# Altium footprint library Capacitor - Electrolytic.PcbLib: 177 footprints (part 1 of 12)
Each footprint in its own frame and in the unit in brackets; x right, y up, seen from the top. Pads: shape width x height; smd on the part's side, far side on the other; paste and mask are expansions set on the pad; w line width, h text height; cw(c..) or ccw(c..) is an arc to the next point about the centre after c.
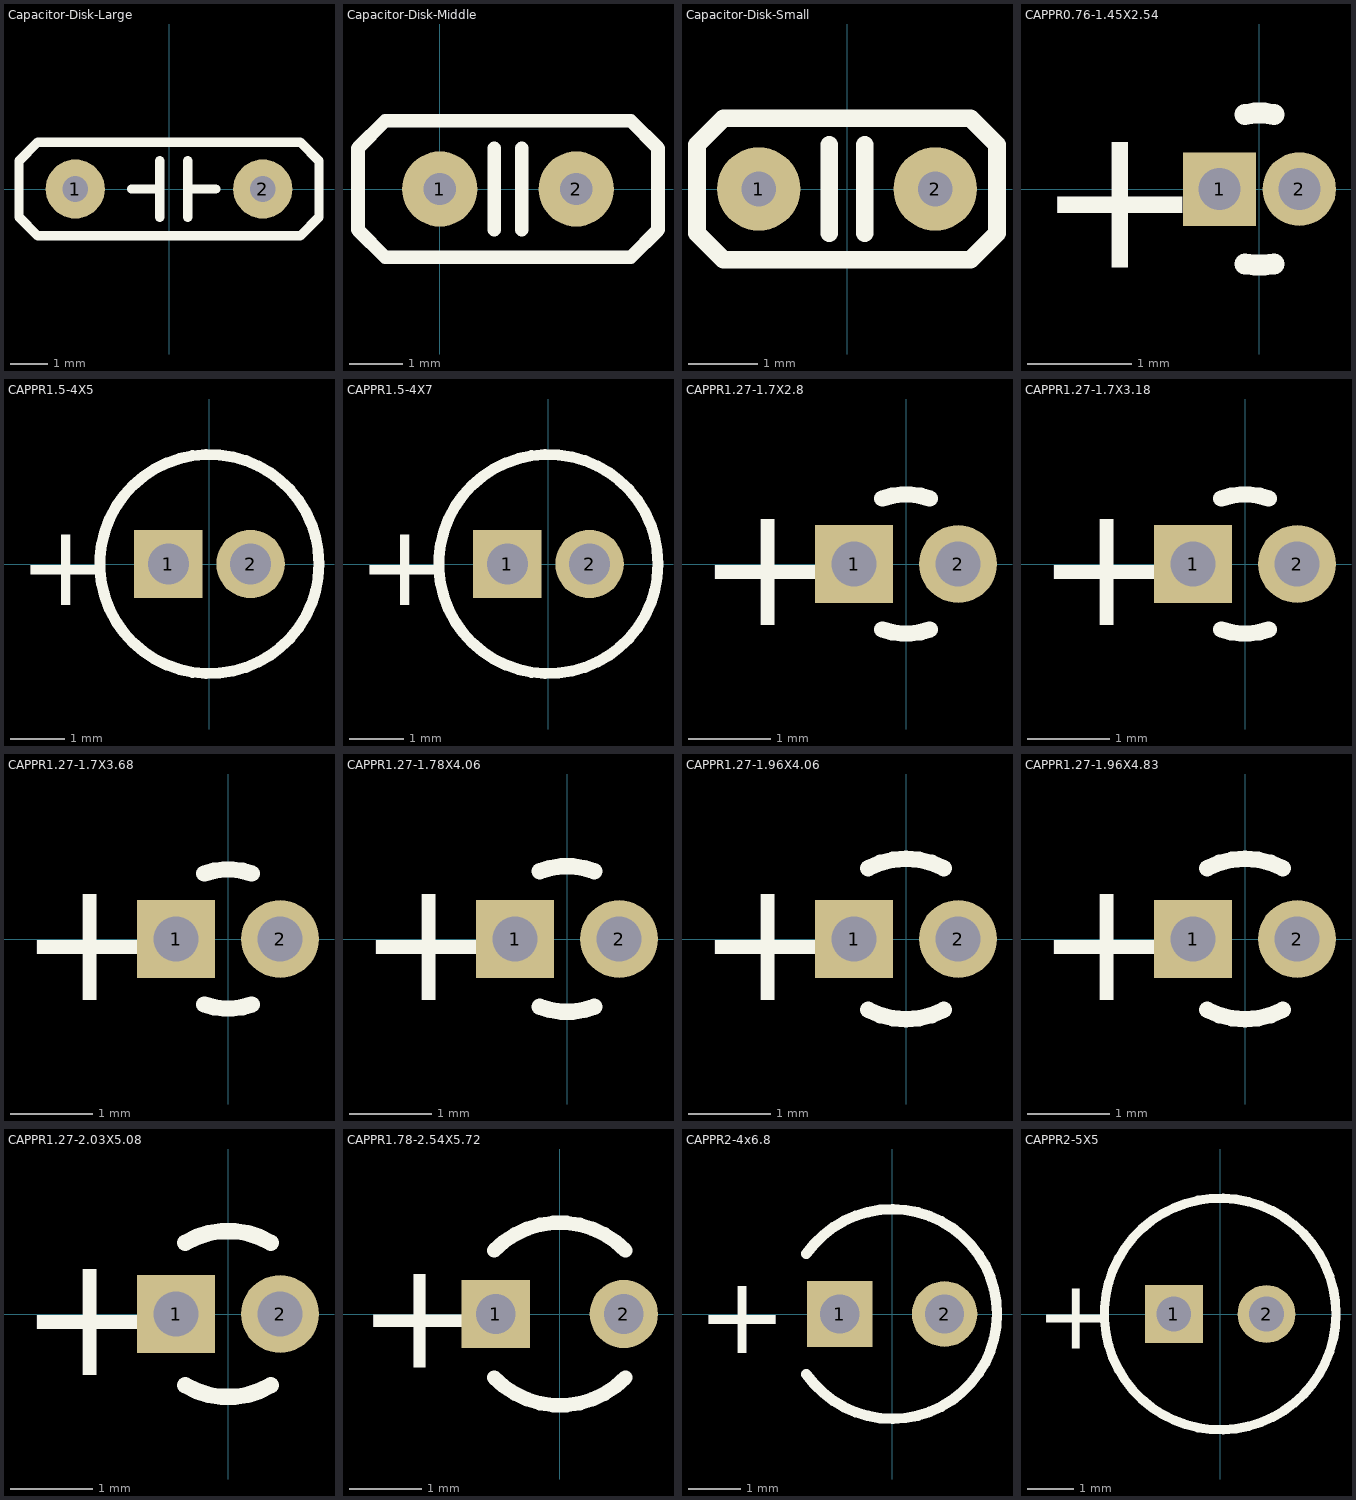
[diagram p0: the footprints below, top view; thin cyan lines are the x and y axes]

## Capacitor-Disk-Large [mm]
pads (2):
  round 1.6 hole 0.7: 1(-2.54,0) 2(2.54,0)
Top Overlay:
  lines w0.254: -1.016,0 -0.254,0 ; -0.254,-0.762 -0.254,0.762 ; 0.508,-0.762 0.508,0.762 ; 0.508,0 1.27,0 ; -4.064,-0.762 -4.064,0.762 -3.556,1.27 3.556,1.27 4.064,0.762 4.064,-0.762 3.556,-1.27 -3.556,-1.27 -4.064,-0.762
3D body: height 8, standoff -2, extent -3.5,-1.024 3.5,1.076

## Capacitor-Disk-Middle [mm]
pads (2):
  round 1.4 hole 0.6: 1(0,0) 2(2.54,0)
Top Overlay:
  lines w0.254: 1.016,-0.762 1.016,0.762 ; 1.524,-0.762 1.524,0.762 ; -1.524,-0.762 -1.524,0.762 -1.016,1.27 3.556,1.27 4.064,0.762 4.064,-0.762 3.556,-1.27 -1.016,-1.27 -1.524,-0.762
3D body: height 7, standoff -2, extent -1.23,-1.1 3.77,1

## Capacitor-Disk-Small [mm]
pads (2):
  round 1.2 hole 0.5: 1(-1.27,0) 2(1.27,0)
Top Overlay:
  lines w0.254: -0.254,-0.635 -0.254,0.635 ; 0.254,-0.635 0.254,0.635 ; -2.159,-0.635 -1.778,-1.016 1.778,-1.016 2.159,-0.635 2.159,0.635 1.778,1.016 -1.778,1.016 -2.159,0.635 -2.159,-0.635
3D body: height 6.5, standoff -2, extent -2,-1.1 2,1

## CAPPR0.76-1.45X2.54 [mm]
pads (2):
  rect 0.7x0.7 hole 0.4: 1(-0.38,0)
  round 0.7 hole 0.4: 2(0.38,0)
Top Overlay:
  lines w0.2: -0.138,-0.712 ccw(c0,0) 0.138,-0.712 ; -0.138,0.712 cw(c0,0) 0.138,0.712
  text "+" at -2.129,-0.749 h1.5
3D body: height 2.54, standoff 0, extent -0.746,-0.746 0.746,0.746

## CAPPR1.5-4X5 [mm]
pads (2):
  rect 1.25x1.25 hole 0.75: 1(-0.75,0)
  round 1.25 hole 0.75: 2(0.75,0)
Top Overlay:
  circle w0.2: c0,0 r2
  text "+" at -3.475,-0.75 h1.5
3D body: height 5, standoff 0.2, extent -2.009,-2.009 2.009,2.009

## CAPPR1.5-4X7 [mm]
pads (2):
  rect 1.25x1.25 hole 0.75: 1(-0.75,0)
  round 1.25 hole 0.75: 2(0.75,0)
Top Overlay:
  circle w0.2: c0,0 r2
  text "+" at -3.475,-0.75 h1.5
3D body: height 7, standoff 0.2, extent -2.009,-2.009 2.009,2.009

## CAPPR1.27-1.7X2.8 [mm]
pads (2):
  rect 0.95x0.95 hole 0.55: 1(-0.635,0)
  round 0.95 hole 0.55: 2(0.635,0)
Top Overlay:
  lines w0.2: -0.291,-0.799 ccw(c0,0) 0.291,-0.799 ; -0.291,0.799 cw(c0,0) 0.291,0.799
  text "+" at -2.551,-0.749 h1.5
3D body: height 2.8, standoff 0, extent -0.905,-0.905 0.905,0.905

## CAPPR1.27-1.7X3.18 [mm]
pads (2):
  rect 0.95x0.95 hole 0.55: 1(-0.635,0)
  round 0.95 hole 0.55: 2(0.635,0)
Top Overlay:
  lines w0.2: -0.291,-0.799 ccw(c0,0) 0.291,-0.799 ; -0.291,0.799 cw(c0,0) 0.291,0.799
  text "+" at -2.551,-0.749 h1.5
3D body: height 3.18, standoff 0, extent -0.905,-0.905 0.905,0.905

## CAPPR1.27-1.7X3.68 [mm]
pads (2):
  rect 0.95x0.95 hole 0.55: 1(-0.635,0)
  round 0.95 hole 0.55: 2(0.635,0)
Top Overlay:
  lines w0.2: -0.291,-0.799 ccw(c0,0) 0.291,-0.799 ; -0.291,0.799 cw(c0,0) 0.291,0.799
  text "+" at -2.551,-0.749 h1.5
3D body: height 3.68, standoff 0, extent -0.905,-0.905 0.905,0.905

## CAPPR1.27-1.78X4.06 [mm]
pads (2):
  rect 0.95x0.95 hole 0.55: 1(-0.635,0)
  round 0.95 hole 0.55: 2(0.635,0)
Top Overlay:
  lines w0.2: -0.333,-0.825 ccw(c0,0) 0.333,-0.825 ; -0.333,0.825 cw(c0,0) 0.333,0.825
  text "+" at -2.551,-0.749 h1.5
3D body: height 4.06, standoff 0, extent -0.905,-0.905 0.905,0.905

## CAPPR1.27-1.96X4.06 [mm]
pads (2):
  rect 0.95x0.95 hole 0.55: 1(-0.635,0)
  round 0.95 hole 0.55: 2(0.635,0)
Top Overlay:
  lines w0.2: -0.46,-0.865 ccw(c0,0) 0.46,-0.865 ; -0.46,0.865 cw(c0,0) 0.46,0.865
  text "+" at -2.551,-0.749 h1.5
3D body: height 4.06, standoff 0.2, extent -1.032,-1.032 1.032,1.032

## CAPPR1.27-1.96X4.83 [mm]
pads (2):
  rect 0.95x0.95 hole 0.55: 1(-0.635,0)
  round 0.95 hole 0.55: 2(0.635,0)
Top Overlay:
  lines w0.2: -0.46,-0.865 ccw(c0,0) 0.46,-0.865 ; -0.46,0.865 cw(c0,0) 0.46,0.865
  text "+" at -2.551,-0.749 h1.5
3D body: height 4.83, standoff 0.2, extent -1.032,-1.032 1.032,1.032

## CAPPR1.27-2.03X5.08 [mm]
pads (2):
  rect 0.95x0.95 hole 0.55: 1(-0.635,0)
  round 0.95 hole 0.55: 2(0.635,0)
Top Overlay:
  lines w0.2: -0.523,-0.87 ccw(c0,0) 0.523,-0.87 ; -0.523,0.87 cw(c0,0) 0.523,0.87
  text "+" at -2.551,-0.749 h1.5
3D body: height 5.08, standoff 0.2, extent -1.101,-1.101 1.101,1.101

## CAPPR1.78-2.54X5.72 [mm]
pads (2):
  rect 0.95x0.95 hole 0.55: 1(-0.89,0)
  round 0.95 hole 0.55: 2(0.89,0)
Top Overlay:
  lines w0.2: -0.914,-0.882 ccw(c0,0) 0.914,-0.882 ; -0.914,0.882 cw(c0,0) 0.914,0.882
  text "+" at -2.806,-0.749 h1.5
3D body: height 5.72, standoff 0.2, extent -1.28,-1.28 1.28,1.28
3D body: height 3, standoff -2, extent -1.636,-0.746 -0.144,0.746
3D body: height 3, standoff -2, extent 0.144,-0.746 1.636,0.746

## CAPPR2-4x6.8 [mm]
pads (2):
  rect 1.25x1.25 hole 0.75: 1(-1,0)
  round 1.25 hole 0.75: 2(1,0)
Top Overlay:
  lines w0.2: -1.638,-1.147 ccw(c0,0) 2,0 ccw(c0,0) -1.638,1.147
  text "+" at -3.725,-0.75 h1.5
3D body: height 6.8, standoff 0.2, extent -1.993,-1.993 1.993,1.993

## CAPPR2-5X5 [mm]
pads (2):
  rect 1.25x1.25 hole 0.75: 1(-1,0)
  round 1.25 hole 0.75: 2(1,0)
Top Overlay:
  circle w0.2: c0,0 r2.5
  text "+" at -3.975,-0.75 h1.5
3D body: height 5, standoff -2, extent -2.5,-2.499 2.5,2.499